# EAGLE library part ADAFRUIT-TFT1.8-BREAKOUT (library Net Widget)
Adafruit 1.8" TFT Breakout Board: http://www.adafruit.com/products/358
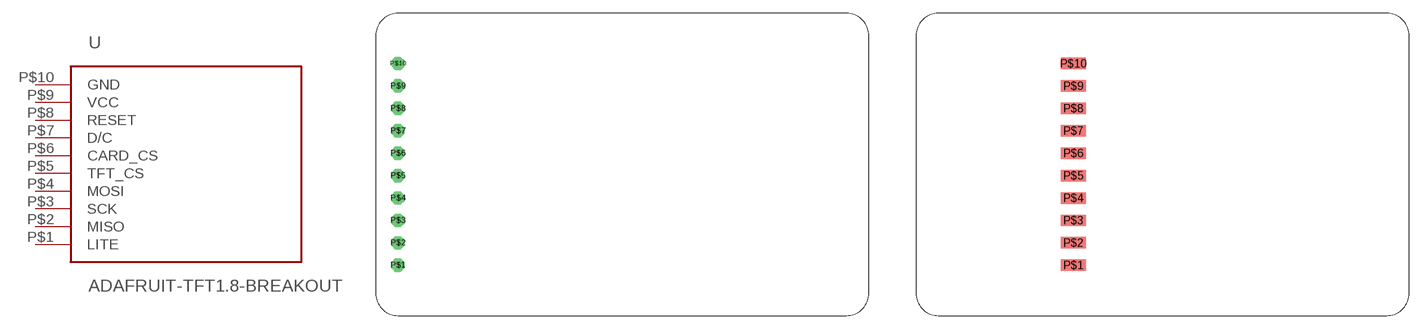
[diagram p0: symbol with the pads of ADAFRUIT-TFT1.8-BREAKOUT; footprints ADAFRUIT-TFT1.8-BREAKOUT, ADAFRUIT-TFT1.8-BREAKOUT-RA]

Designator prefix -

## ADAFRUIT-TFT1.8-BREAKOUT  [ADAFRUIT-TFT1.8-BREAKOUT]
P$1  LITE
P$2  MISO
P$3  SCK
P$4  MOSI
P$5  TFT_CS
P$6  CARD_CS
P$7  D/C
P$8  RESET
P$9  VCC
P$10  GND

## ADAFRUIT-TFT1.8-BREAKOUT-RA  [ADAFRUIT-TFT1.8-BREAKOUT-RA]
Pads as for ADAFRUIT-TFT1.8-BREAKOUT

## Footprint ADAFRUIT-TFT1.8-BREAKOUT (pad centres in mm)
drill 1 octagon: P$1 -25.4,-11.43; P$2 -25.4,-8.89; P$3 -25.4,-6.35; P$4 -25.4,-3.81; P$5 -25.4,-1.27; P$6 -25.4,1.27; P$7 -25.4,3.81; P$8 -25.4,6.35; P$9 -25.4,8.89; P$10 -25.4,11.43

## Footprint ADAFRUIT-TFT1.8-BREAKOUT-RA (pad centres in mm)
smd 2.8 x 1.3: P$1 -10.1,-11.43; P$2 -10.1,-8.89; P$3 -10.1,-6.35; P$4 -10.1,-3.81; P$5 -10.1,-1.27; P$6 -10.1,1.27; P$7 -10.1,3.81; P$8 -10.1,6.35; P$9 -10.1,8.89; P$10 -10.1,11.43